# Altium schematic symbol library ss_ServersControl.SchLib: 14 symbols
Pins are listed as number, name and electrical type; pins without a type are passive.

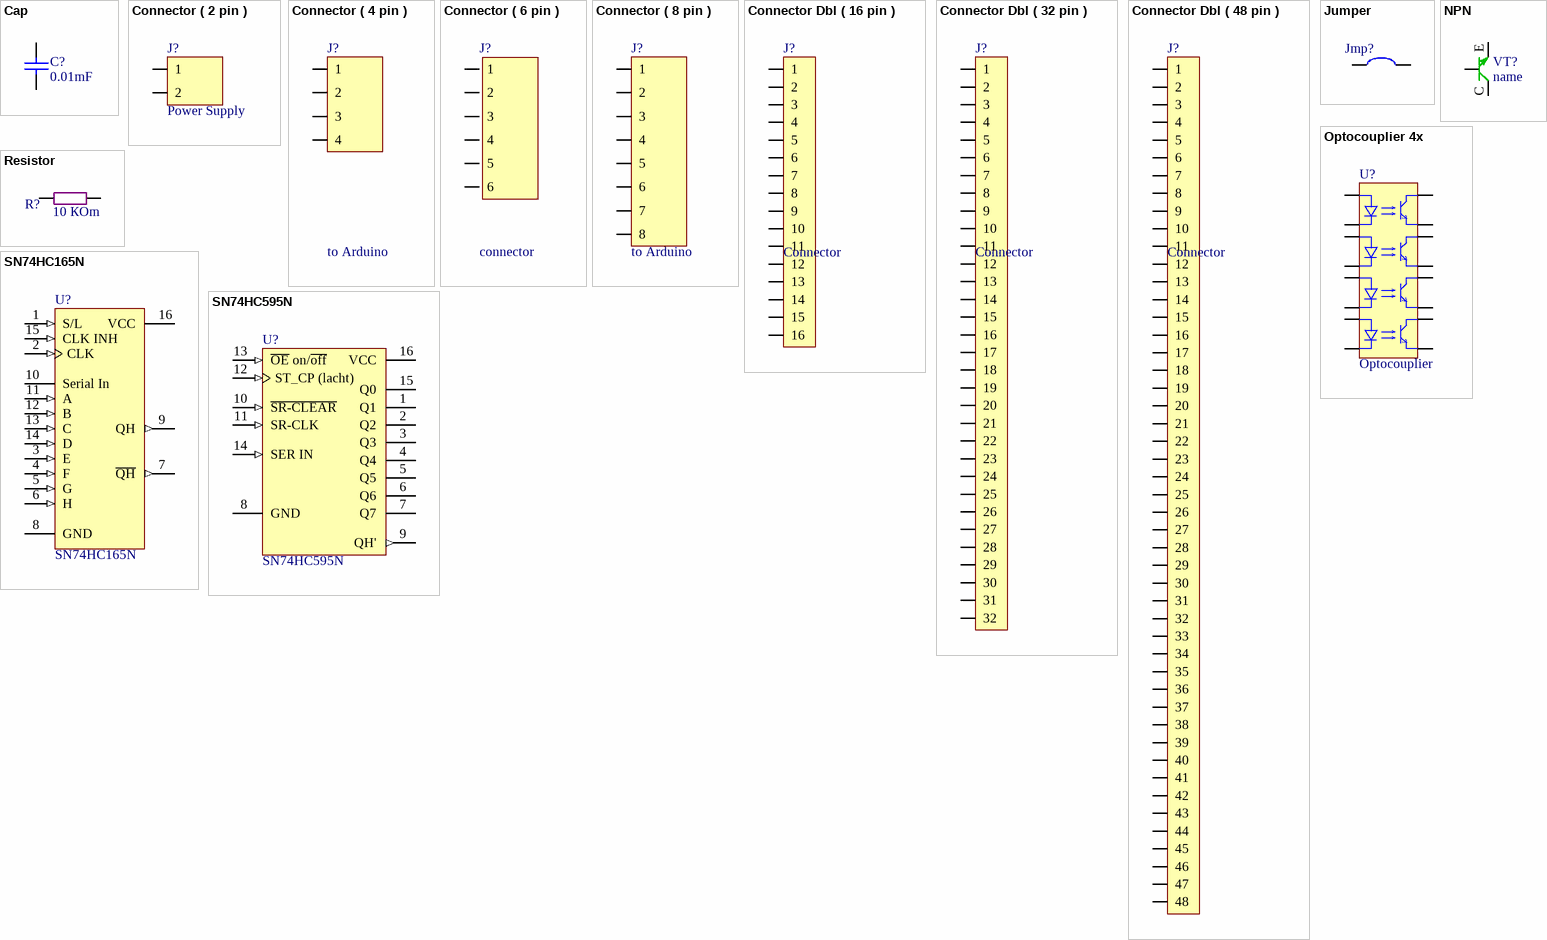
[diagram p0: symbols Cap to SN74HC595N]

## Cap
designator C?, comment 0.01mF
Capacitor
footprint Cap (3p)
footprint Cap p2.54mm (2p)
pins: 1, 2

## Connector ( 2 pin )
designator J?, comment Power Supply
8pin Connector
footprint Line 2.54 x 2
3D model pin_header_aw140-eg-g02d (PCB3D Model)
pins: 1, 2

## Connector ( 4 pin )
designator J?, comment to Arduino
4pin Connector
footprint Line 2.54 X 4
footprint Line 2.54 X 4R
pins: 1, 2, 3, 4

## Connector ( 6 pin )
designator J?, comment connector
6pin Connector
footprint Line 2.54 x 6
footprint Line 2.54 x 6 L
footprint Line 2.54 x 6 R
pins: 1, 2, 3, 4, 5, 6

## Connector ( 8 pin )
designator J?, comment to Arduino
8pin Connector
footprint Line 2.54 x 8
footprint Line 2.54 X 8D
pins: 1, 2, 3, 4, 5, 6, 7, 8

## Connector Dbl ( 16 pin )
designator J?, comment Connector
16pin Connector
3D model pin_header_awl254-dg-g12d (PCB3D Model)
footprint LINE 2.54 x 8D
footprint LINE 2.54 x 8D mirrored
pins: 1, 2, 3, 4, 5, 6, 7, 8, 9, 10, 11, 12, 13, 14, 15, 16

## Connector Dbl ( 32 pin )
designator J?, comment Connector
32pin Connector
footprint LINE 2.54 x 16D
3D model pin_header_awl254-dg-g12d (PCB3D Model)
pins: 1, 2, 3, 4, 5, 6, 7, 8, 9, 10, 11, 12, 13, 14, 15, 16, 17, 18, 19, 20, 21, 22, 23, 24, 25, 26, 27, 28, 29, 30, 31, 32

## Connector Dbl ( 48 pin )
designator J?, comment Connector
48pin Connector
3D model pin_header_awl254-dg-g12d (PCB3D Model)
footprint Line 2.54 X 24D
pins: 1, 2, 3, 4, 5, 6, 7, 8, 9, 10, 11, 12, 13, 14, 15, 16, 17, 18, 19, 20, 21, 22, 23, 24, 25, 26, 27, 28, 29, 30, 31, 32, 33, 34, 35, 36, 37, 38, 39, 40, 41, 42, 43, 44, 45, 46, 47, 48

## Jumper
designator Jmp?  (value not drawn)
footprint Jumper 3p
footprint Jumper S 8x4
footprint Jumper S 13x4
pins: 1, 2

## NPN
designator VT?, comment name
footprint Trnstr (3p) ECB (L p7.62; horisontal)
pins: B, C, E

## Optocouplier 4x
designator U?, comment Optocouplier
4x channel; LTV847 Datasheet: http://lib.chipdip.ru/224/DOC000224974.pdf
3D model DIP16 (PCB3D Model)
footprint DIP16 (DIP; 16 Leads; Row Spacing 7.62 mm; Pitch 2.54 mm)
pins: 1, 2, 3, 4, 5, 6, 7, 8, 9, 10, 11, 12, 13, 14, 15, 16

## Resistor
designator R?, comment 10 КOm
footprint Res p5.08 D8mm (3P) (L p5.08 (3pin); Vertical)
footprint Res p7.62 (4p) (L p7.62; horisontal)
footprint Res p27.94 W8mm (12p) (L p27.94 (11pin); horisontal)
footprint Res W5mm (10p) (L p22.86 (10pin); horisontal)
footprint SMD 1206 (3216)
footprint SMD 0603 (1608)
pins: 1, 2

## SN74HC165N
designator U?
8-Bit Parallel-Load Shift Register; Published: 8-Jun-2000; LatestRevisionDate: 04-Mar-2005; LatestRevisionNote: Stylized 3D Model Added.; DatasheetVersion: May-1997; PackageVersion: Oct-1995; PackageReference: N016; Publisher: Altium Limited; PackageDescription: DIP; 16 Leads; Row Spacing 7.62 mm; Pitch 2.54 mm; Code_JEDEC: MS-001-BB; ComponentLink1Description: Manufacturer Link; ComponentLink1URL: http://www.ti.com/; ComponentLink2Description: Datasheet; ComponentLink2URL: http://www-s.ti.com/sc/ds/sn74hc165.pdf
signal-integrity model SN74HC165N
3D model DIP16 (PCB3D Model)
footprint DIP16 (DIP; 16 Leads; Row Spacing 7.62 mm; Pitch 2.54 mm)
pins: 1 S/L (in), 2 CLK (in), 3 E (in), 4 F (in), 5 G (in), 6 H (in), 7 ~{QH} (out), 8 GND (power), 9 QH (out), 10 Serial In, 11 A (in), 12 B (in), 13 C (in), 14 D (in), 15 CLK INH (in), 16 VCC (power)

## SN74HC595N
designator U?
8-Bit Shift Register with 3-State Output Registers; Published: 8-Jun-2000; LatestRevisionDate: 04-Mar-2005; LatestRevisionNote: Stylized 3D Model Added.; DatasheetVersion: May-1997; PackageVersion: Oct-1995; PackageReference: N016; Publisher: Altium Limited; PackageDescription: DIP; 16 Leads; Row Spacing 7.62 mm; Pitch 2.54 mm; Code_JEDEC: MS-001-BB; ComponentLink1Description: Manufacturer Link; ComponentLink1URL: http://www.ti.com/; ComponentLink2Description: Datasheet; ComponentLink2URL: http://www-s.ti.com/sc/ds/sn74hc595.pdf
signal-integrity model SN74HC595N
3D model DIP16 (PCB3D Model)
footprint DIP16 (DIP; 16 Leads; Row Spacing 7.62 mm; Pitch 2.54 mm)
pins: 1 Q1 (hiz), 2 Q2 (hiz), 3 Q3 (hiz), 4 Q4 (hiz), 5 Q5 (hiz), 6 Q6 (hiz), 7 Q7 (hiz), 8 GND (power), 9 QH' (out), 10 ~{SR-CLEAR} (in), 11 SR-CLK (in), 12 ST_CP (lacht) (in), 13 ~{OE} on/~{off} (in), 14 SER IN (in), 15 Q0 (hiz), 16 VCC (power)